# EAGLE library part G6CK-1114P (library G6CK-1114-US)
RELAY 1 x norm. open, 10 A/240 V, Omron Double-winding Latching Model
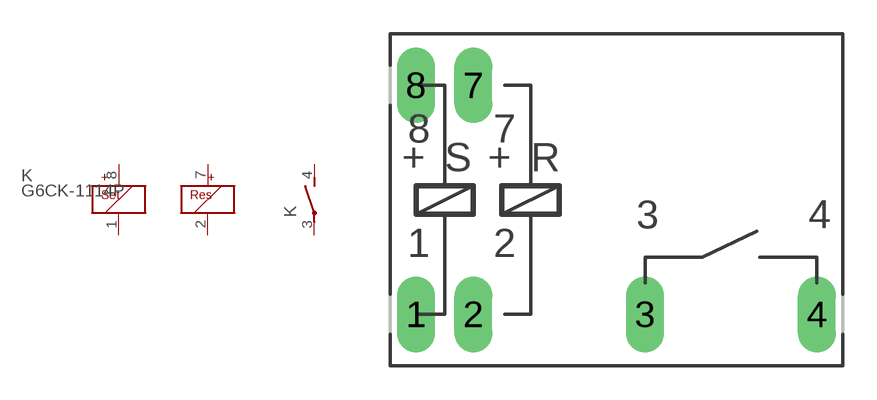
[diagram p0: symbol with the pads of G6CK-1117P; footprint G6CK-1117P]

Designator prefix K; gates S=COIL 2=S

## G6CK-1114P  [G6CK-1117P]
1  S:S-  pas
2  S:R-  pas
3  2:P  pas
4  2:S  pas
7  S:R+  pas
8  S:S+  pas

## Footprint G6CK-1117P (pad centres in mm)
RELAY 1 x norm. open, 10 A/240 V, Omron Double-winding Latching Model
drill 1.118 long: 1 -8.89,-5.08; 2 -6.35,-5.08; 3 1.27,-5.08; 4 8.89,-5.08; 7 -6.35,5.08; 8 -8.89,5.08